# EAGLE library part W25X20CLUXIG_TR (library W25X20CLUXIG_TR)
Ic Flash 2mbit 104mhz
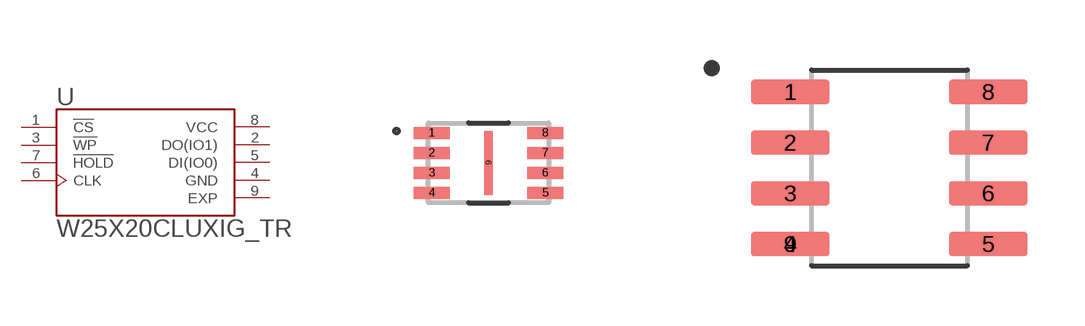
[diagram p0: symbol with the pads of SON50P300X200X60-9N; footprints SON50P300X200X60-9N, SOIC]

Designator prefix U

## W25X20CLUXIG_TR (AVAILABILITY: Good; DESCRIPTION: Ic Flash 2mbit 104mhz; MF: Winbond; MP: W25X20CLUXIG TR; PACKAGE: UFDFN-8 Winbond; PRICE: 0.47 USD)  [SON50P300X200X60-9N]
1  !CS  in
2  DO(IO1)
3  !WP  in
4  GND  pwr
5  DI(IO0)
6  CLK  in
7  !HOLD  in
8  VCC  pwr
9  EXP  pas

## W25X20CLUXIG_TRSOIC  [SOIC]
Pads as for SON50P300X200X60-9N

## Footprint SON50P300X200X60-9N (pad centres in mm)
smd 0.89 x 0.3: 1 -1.42,0.75; 2 -1.42,0.25; 3 -1.42,-0.25; 4 -1.42,-0.75; 5 1.42,-0.75; 6 1.42,-0.25; 7 1.42,0.25; 8 1.42,0.75
smd 0.2 x 1.6: 9 0,0

## Footprint SOIC (pad centres in mm)
smd 1.97 x 0.6: 1 -2.475,1.905; 2 -2.475,0.635; 3 -2.475,-0.635; 4 -2.475,-1.905; 5 2.475,-1.905; 6 2.475,-0.635; 7 2.475,0.635; 8 2.475,1.905; 9 -2.475,-1.905